# Altium schematic symbol library 15V.SCHLIB: 9 symbols
Pins are listed as number, name and electrical type; pins without a type are passive.

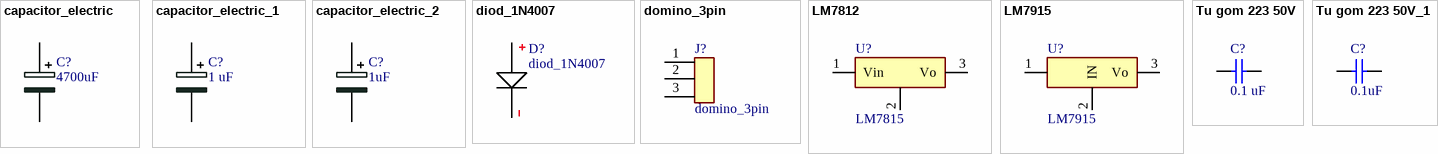
[diagram p0: symbols capacitor_electric to Tu gom 223 50V_1]

## capacitor_electric
designator C?, comment 4700uF
capacitor_electric
footprint capacitor_elec_t/h_5mm
pins: 1, 2

## capacitor_electric_1
designator C?, comment 1 uF
capacitor_electric
footprint capacitor_elec_t/h_5mm
pins: 1, 2

## capacitor_electric_2
designator C?, comment 1uF
capacitor_electric
footprint capacitor_elec_t/h_5mm
pins: 1, 2

## diod_1N4007
designator D?
footprint diode_t/h_1N4007
pins: 1 A, 2 K

## domino_3pin
designator J?
footprint domino_3pin_5.08mm
pins: 1, 2, 3

## LM7812
designator U?, comment LM7815
LM7812
footprint LM7812
pins: 1 Vin, 2 GND, 3 Vo

## LM7915
designator U?
footprint LM7915
pins: 1 GND, 2 IN, 3 Vo

## Tu gom 223 50V
designator C?, comment 0.1 uF
Cắm; Don_Vi: Con; So_Chan: 2; Ten_Linh_Kien: Tụ gốm 223-22nF 50V; Ma_Hang: MH007018; Chung_Loai: Cắm; Kieu_Chan: *
footprint tu gom (Tu gom mini)
pins: 1, 2

## Tu gom 223 50V_1
designator C?, comment 0.1uF
Cắm; Don_Vi: Con; So_Chan: 2; Ten_Linh_Kien: Tụ gốm 223-22nF 50V; Ma_Hang: MH007018; Chung_Loai: Cắm; Kieu_Chan: *
footprint tu gom (Tu gom mini)
pins: 1, 2